# Altium footprint library TSW-107-07-L-S.PcbLib: 1 footprints
Each footprint in its own frame and in the unit in brackets; x right, y up, seen from the top. Pads: shape width x height; smd on the part's side, far side on the other; paste and mask are expansions set on the pad; w line width, h text height; cw(c..) or ccw(c..) is an arc to the next point about the centre after c.
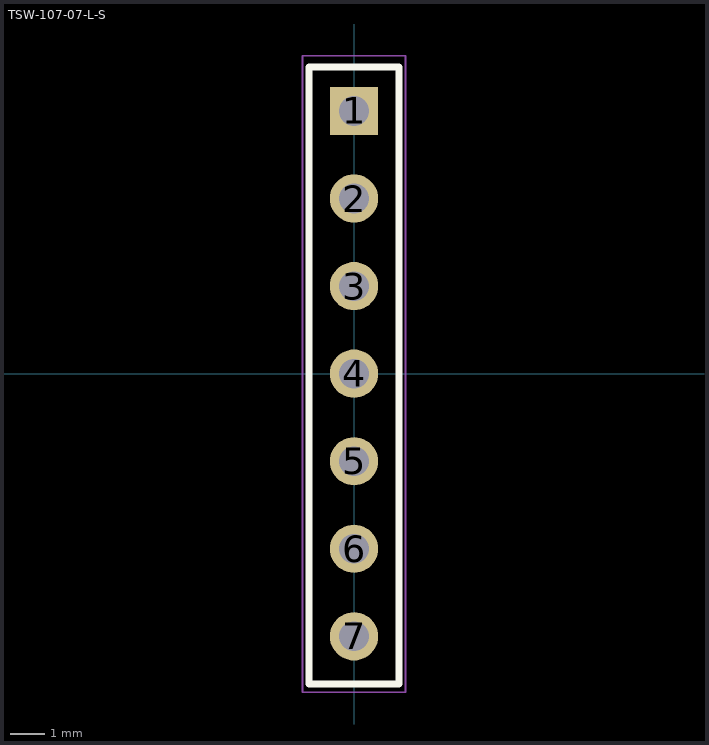
[diagram p0: the footprint, top view; thin cyan lines are the x and y axes]

## TSW-107-07-L-S [mm] "Conn Unshrouded Header HDR 7 POS 2.54mm Solder ST Thru-Hole"
pads (7):
  rect 1.4x1.4 hole 0.86: 1(0,7.62)
  round 1.4 hole 0.86: 2(0,5.08) 3(0,2.54) 4(0,0) 5(0,-2.54) 6(0,-5.08) 7(0,-7.62)
Top Overlay:
  lines w0.2: -1.3,-9 -1.3,8.9 1.3,8.9 1.3,-9 -1.3,-9
Mechanical 15:
  lines w0.05: -1.495,-9.24 -1.495,9.22 1.495,9.22 1.495,-9.24 -1.495,-9.24
3D body "TSW-107-07-G-S.stp": height 8.38, standoff -2.54, extent -1.27,-9.017 1.27,8.89